# EAGLE library part AT74F002-TSOP32 (library memory)
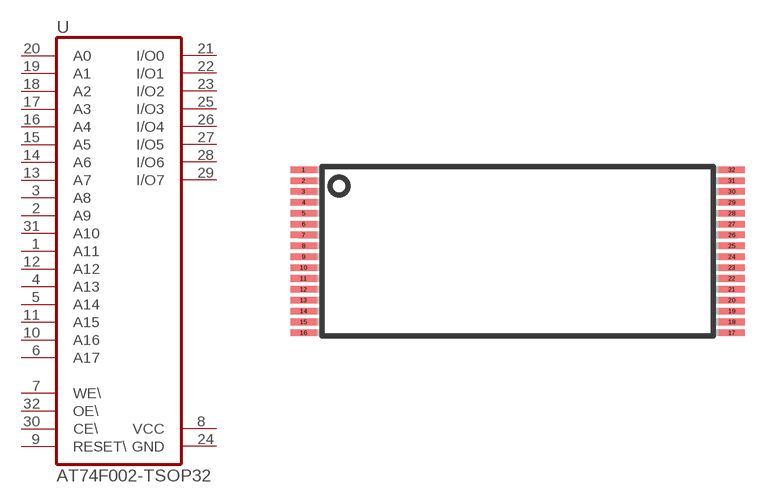
[diagram p65: symbol with the pads of TSOP32; footprint TSOP32]

Designator prefix -

## AT74F002-TSOP32  [TSOP32]
1  A11  in
2  A9  in
3  A8  in
4  A13  in
5  A14  in
6  A17  in
7  WE\  in
8  VCC  pwr
9  RESET\  in
10  A16  in
11  A15  in
12  A12  in
13  A7  in
14  A6  in
15  A5  in
16  A4  in
17  A3  in
18  A2  in
19  A1  in
20  A0  in
21  I/O0
22  I/O1
23  I/O2
24  GND  pwr
25  I/O3
26  I/O4
27  I/O5
28  I/O6
29  I/O7
30  CE\  in
31  A10  in
32  OE\  in

## Footprint TSOP32 (pad centres in mm)
Thin Small Outline Package
smd 1.2 x 0.3: 1 -9.85,3.75; 2 -9.85,3.25; 3 -9.85,2.75; 4 -9.85,2.25; 5 -9.85,1.75; 6 -9.85,1.25; 7 -9.85,0.75; 8 -9.85,0.25; 9 -9.85,-0.25; 10 -9.85,-0.75; 11 -9.85,-1.25; 12 -9.85,-1.75; 13 -9.85,-2.25; 14 -9.85,-2.75; 15 -9.85,-3.25; 16 -9.85,-3.75; 17 9.85,-3.75; 18 9.85,-3.25; 19 9.85,-2.75; 20 9.85,-2.25; 21 9.85,-1.75; 22 9.85,-1.25; 23 9.85,-0.75; 24 9.85,-0.25; 25 9.85,0.25; 26 9.85,0.75; 27 9.85,1.25; 28 9.85,1.75; 29 9.85,2.25; 30 9.85,2.75; 31 9.85,3.25; 32 9.85,3.75